# Altium footprint library 3PinHeader.PcbLib: 1 footprints
Each footprint in its own frame and in the unit in brackets; x right, y up, seen from the top. Pads: shape width x height; smd on the part's side, far side on the other; paste and mask are expansions set on the pad; w line width, h text height; cw(c..) or ccw(c..) is an arc to the next point about the centre after c.
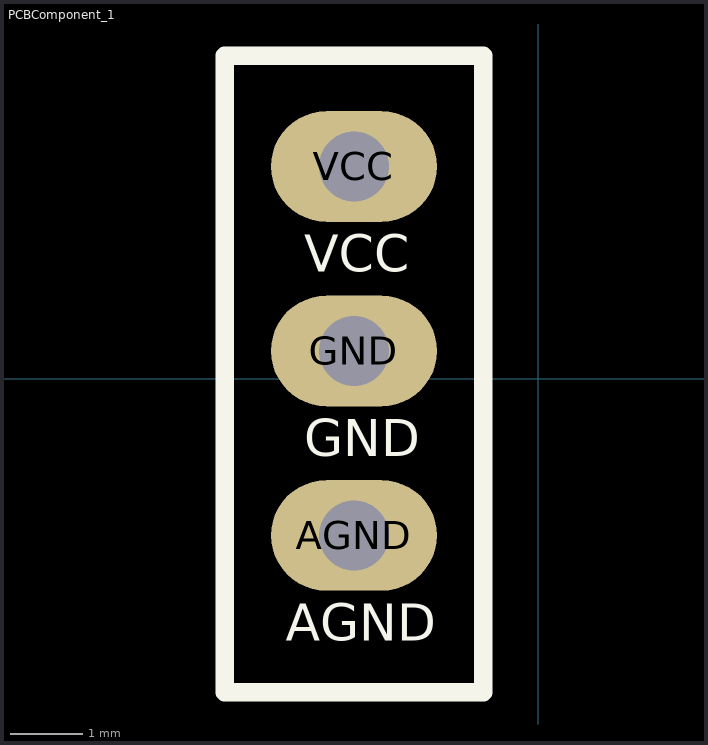
[diagram p0: the footprint, top view; thin cyan lines are the x and y axes]

## PCBComponent_1 [mil]
pads (3):
  oval 90x60 hole 38: AGND(-100,-85) GND(-100,15)
  oval 90x60 / inner round 60 / far side oval 90x60 hole 38: VCC(-100,115)
Top Overlay:
  lines w10: -107.5,-170 -30,-170 -30,-75 -30,85 -30,175 ; -100,175 -30,175 ; -37.5,-170 -92.5,-170 -170,-170 -170,175 -30,175
  text "AGND" at -137,-142 h20
  text "GND" at -127,-42 h20
  text "VCC" at -127,58 h20